# Altium footprint library Connector_JAE_WP7B.PcbLib: 20 footprints (part 2 of 2)
Each footprint in its own frame and in the unit in brackets; x right, y up, seen from the top. Pads: shape width x height; smd on the part's side, far side on the other; paste and mask are expansions set on the pad; w line width, h text height; cw(c..) or ccw(c..) is an arc to the next point about the centre after c.
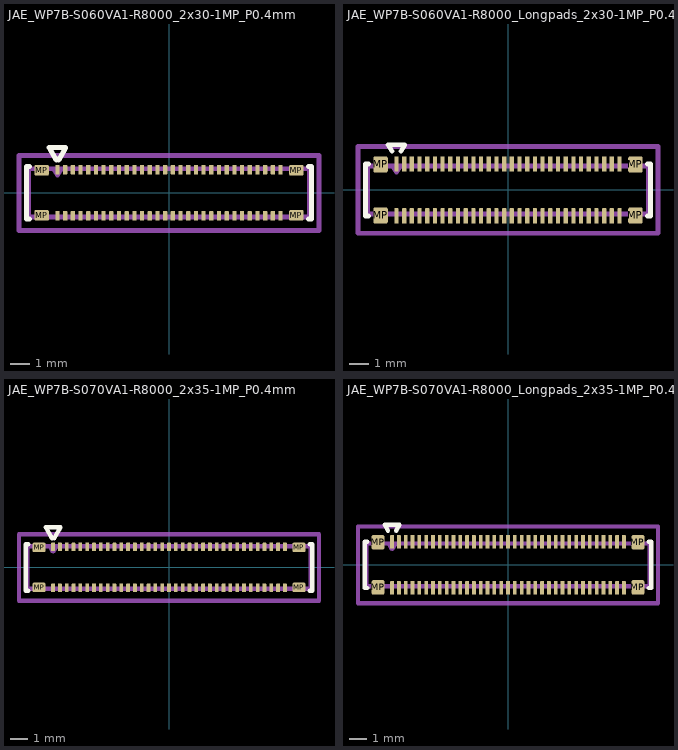
[diagram p1: the footprints below, top view; thin cyan lines are the x and y axes]

## JAE_WP7B-S060VA1-R8000_2x30-1MP_P0.4mm [mm]
pads (64):
  rrect25% 0.22x0.5 smd: 1(-5.8,1.2) 2(-5.8,-1.2) 3(-5.4,1.2) 4(-5.4,-1.2) 5(-5,1.2) 6(-5,-1.2) 7(-4.6,1.2) 8(-4.6,-1.2) 9(-4.2,1.2) 10(-4.2,-1.2) 11(-3.8,1.2) 12(-3.8,-1.2) 13(-3.4,1.2) 14(-3.4,-1.2) 15(-3,1.2) 16(-3,-1.2) 17(-2.6,1.2) 18(-2.6,-1.2) 19(-2.2,1.2) 20(-2.2,-1.2) 21(-1.8,1.2) 22(-1.8,-1.2) 23(-1.4,1.2) 24(-1.4,-1.2) 25(-1,1.2) 26(-1,-1.2) 27(-0.6,1.2) 28(-0.6,-1.2) 29(-0.2,1.2) 30(-0.2,-1.2) 31(0.2,1.2) 32(0.2,-1.2) 33(0.6,1.2) 34(0.6,-1.2) 35(1,1.2) 36(1,-1.2) 37(1.4,1.2) 38(1.4,-1.2) 39(1.8,1.2) 40(1.8,-1.2) 41(2.2,1.2) 42(2.2,-1.2) 43(2.6,1.2) 44(2.6,-1.2) 45(3,1.2) 46(3,-1.2) 47(3.4,1.2) 48(3.4,-1.2) 49(3.8,1.2) 50(3.8,-1.2) 51(4.2,1.2) 52(4.2,-1.2) 53(4.6,1.2) 54(4.6,-1.2) 55(5,1.2) 56(5,-1.2) 57(5.4,1.2) 58(5.4,-1.2) 59(5.8,1.2) 60(5.8,-1.2)
  rrect25% 0.75x0.55 smd: MP(-6.625,-1.175) MP(-6.625,1.175) MP(6.625,-1.175) MP(6.625,1.175)
F.SilkS:
  lines w0.254: -7.26,-1.36 -7.41,-1.36 -7.41,1.36 -7.26,1.36 ; -5.864,1.71 -6.233,2.35 -5.367,2.35 -5.736,1.71 ; 7.26,-1.36 7.41,-1.36 7.41,1.36 7.26,1.36
Top Assembly:
  lines w0.254: -6,1.25 -5.8,0.93 -5.6,1.25 ; -7.3,-1.25 7.3,-1.25 7.3,1.25 -7.3,1.25 -7.3,-1.25
  text "'.Designator'" at -4.047,-0.84 h1
Top Courtyard:
  lines w0.254: -7.8,-1.95 7.8,-1.95 7.8,1.95 -7.8,1.95 -7.8,-1.95
Top Designator:
  text ".Designator" at -7.618,-0.308 h1.52

## JAE_WP7B-S060VA1-R8000_Longpads_2x30-1MP_P0.4mm [mm]
pads (64):
  rrect25% 0.22x0.8 smd: 1(-5.8,1.35) 2(-5.8,-1.35) 3(-5.4,1.35) 4(-5.4,-1.35) 5(-5,1.35) 6(-5,-1.35) 7(-4.6,1.35) 8(-4.6,-1.35) 9(-4.2,1.35) 10(-4.2,-1.35) 11(-3.8,1.35) 12(-3.8,-1.35) 13(-3.4,1.35) 14(-3.4,-1.35) 15(-3,1.35) 16(-3,-1.35) 17(-2.6,1.35) 18(-2.6,-1.35) 19(-2.2,1.35) 20(-2.2,-1.35) 21(-1.8,1.35) 22(-1.8,-1.35) 23(-1.4,1.35) 24(-1.4,-1.35) 25(-1,1.35) 26(-1,-1.35) 27(-0.6,1.35) 28(-0.6,-1.35) 29(-0.2,1.35) 30(-0.2,-1.35) 31(0.2,1.35) 32(0.2,-1.35) 33(0.6,1.35) 34(0.6,-1.35) 35(1,1.35) 36(1,-1.35) 37(1.4,1.35) 38(1.4,-1.35) 39(1.8,1.35) 40(1.8,-1.35) 41(2.2,1.35) 42(2.2,-1.35) 43(2.6,1.35) 44(2.6,-1.35) 45(3,1.35) 46(3,-1.35) 47(3.4,1.35) 48(3.4,-1.35) 49(3.8,1.35) 50(3.8,-1.35) 51(4.2,1.35) 52(4.2,-1.35) 53(4.6,1.35) 54(4.6,-1.35) 55(5,1.35) 56(5,-1.35) 57(5.4,1.35) 58(5.4,-1.35) 59(5.8,1.35) 60(5.8,-1.35)
  rrect25% 0.75x0.85 smd: MP(-6.625,-1.325) MP(-6.625,1.325) MP(6.625,-1.325) MP(6.625,1.325)
F.SilkS:
  lines w0.254: -7.26,-1.36 -7.41,-1.36 -7.41,1.36 -7.26,1.36 ; -6.037,2.01 -6.233,2.35 -5.367,2.35 -5.563,2.01 ; 7.26,-1.36 7.41,-1.36 7.41,1.36 7.26,1.36
Top Assembly:
  lines w0.254: -6,1.25 -5.8,0.93 -5.6,1.25 ; -7.3,-1.25 7.3,-1.25 7.3,1.25 -7.3,1.25 -7.3,-1.25
  text "'.Designator'" at -4.047,-0.84 h1
Top Courtyard:
  lines w0.254: -7.8,-2.25 7.8,-2.25 7.8,2.25 -7.8,2.25 -7.8,-2.25
Top Designator:
  text ".Designator" at -7.618,-0.458 h1.52

## JAE_WP7B-S070VA1-R8000_2x35-1MP_P0.4mm [mm]
pads (74):
  rrect25% 0.22x0.5 smd: 1(-6.8,1.2) 2(-6.8,-1.2) 3(-6.4,1.2) 4(-6.4,-1.2) 5(-6,1.2) 6(-6,-1.2) 7(-5.6,1.2) 8(-5.6,-1.2) 9(-5.2,1.2) 10(-5.2,-1.2) 11(-4.8,1.2) 12(-4.8,-1.2) 13(-4.4,1.2) 14(-4.4,-1.2) 15(-4,1.2) 16(-4,-1.2) 17(-3.6,1.2) 18(-3.6,-1.2) 19(-3.2,1.2) 20(-3.2,-1.2) 21(-2.8,1.2) 22(-2.8,-1.2) 23(-2.4,1.2) 24(-2.4,-1.2) 25(-2,1.2) 26(-2,-1.2) 27(-1.6,1.2) 28(-1.6,-1.2) 29(-1.2,1.2) 30(-1.2,-1.2) 31(-0.8,1.2) 32(-0.8,-1.2) 33(-0.4,1.2) 34(-0.4,-1.2) 35(0,1.2) 36(0,-1.2) 37(0.4,1.2) 38(0.4,-1.2) 39(0.8,1.2) 40(0.8,-1.2) 41(1.2,1.2) 42(1.2,-1.2) 43(1.6,1.2) 44(1.6,-1.2) 45(2,1.2) 46(2,-1.2) 47(2.4,1.2) 48(2.4,-1.2) 49(2.8,1.2) 50(2.8,-1.2) 51(3.2,1.2) 52(3.2,-1.2) 53(3.6,1.2) 54(3.6,-1.2) 55(4,1.2) 56(4,-1.2) 57(4.4,1.2) 58(4.4,-1.2) 59(4.8,1.2) 60(4.8,-1.2) 61(5.2,1.2) 62(5.2,-1.2) 63(5.6,1.2) 64(5.6,-1.2) 65(6,1.2) 66(6,-1.2) 67(6.4,1.2) 68(6.4,-1.2) 69(6.8,1.2) 70(6.8,-1.2)
  rrect25% 0.75x0.55 smd: MP(-7.625,-1.175) MP(-7.625,1.175) MP(7.625,-1.175) MP(7.625,1.175)
F.SilkS:
  lines w0.254: -8.26,-1.36 -8.41,-1.36 -8.41,1.36 -8.26,1.36 ; -6.864,1.71 -7.233,2.35 -6.367,2.35 -6.736,1.71 ; 8.26,-1.36 8.41,-1.36 8.41,1.36 8.26,1.36
Top Assembly:
  lines w0.254: -7,1.25 -6.8,0.93 -6.6,1.25 ; -8.3,-1.25 8.3,-1.25 8.3,1.25 -8.3,1.25 -8.3,-1.25
  text "'.Designator'" at -4.047,-0.84 h1
Top Courtyard:
  lines w0.254: -8.8,-1.95 8.8,-1.95 8.8,1.95 -8.8,1.95 -8.8,-1.95
Top Designator:
  text ".Designator" at -7.618,-0.308 h1.52

## JAE_WP7B-S070VA1-R8000_Longpads_2x35-1MP_P0.4mm [mm]
pads (74):
  rrect25% 0.22x0.8 smd: 1(-6.8,1.35) 2(-6.8,-1.35) 3(-6.4,1.35) 4(-6.4,-1.35) 5(-6,1.35) 6(-6,-1.35) 7(-5.6,1.35) 8(-5.6,-1.35) 9(-5.2,1.35) 10(-5.2,-1.35) 11(-4.8,1.35) 12(-4.8,-1.35) 13(-4.4,1.35) 14(-4.4,-1.35) 15(-4,1.35) 16(-4,-1.35) 17(-3.6,1.35) 18(-3.6,-1.35) 19(-3.2,1.35) 20(-3.2,-1.35) 21(-2.8,1.35) 22(-2.8,-1.35) 23(-2.4,1.35) 24(-2.4,-1.35) 25(-2,1.35) 26(-2,-1.35) 27(-1.6,1.35) 28(-1.6,-1.35) 29(-1.2,1.35) 30(-1.2,-1.35) 31(-0.8,1.35) 32(-0.8,-1.35) 33(-0.4,1.35) 34(-0.4,-1.35) 35(0,1.35) 36(0,-1.35) 37(0.4,1.35) 38(0.4,-1.35) 39(0.8,1.35) 40(0.8,-1.35) 41(1.2,1.35) 42(1.2,-1.35) 43(1.6,1.35) 44(1.6,-1.35) 45(2,1.35) 46(2,-1.35) 47(2.4,1.35) 48(2.4,-1.35) 49(2.8,1.35) 50(2.8,-1.35) 51(3.2,1.35) 52(3.2,-1.35) 53(3.6,1.35) 54(3.6,-1.35) 55(4,1.35) 56(4,-1.35) 57(4.4,1.35) 58(4.4,-1.35) 59(4.8,1.35) 60(4.8,-1.35) 61(5.2,1.35) 62(5.2,-1.35) 63(5.6,1.35) 64(5.6,-1.35) 65(6,1.35) 66(6,-1.35) 67(6.4,1.35) 68(6.4,-1.35) 69(6.8,1.35) 70(6.8,-1.35)
  rrect25% 0.75x0.85 smd: MP(-7.625,-1.325) MP(-7.625,1.325) MP(7.625,-1.325) MP(7.625,1.325)
F.SilkS:
  lines w0.254: -8.26,-1.36 -8.41,-1.36 -8.41,1.36 -8.26,1.36 ; -7.037,2.01 -7.233,2.35 -6.367,2.35 -6.563,2.01 ; 8.26,-1.36 8.41,-1.36 8.41,1.36 8.26,1.36
Top Assembly:
  lines w0.254: -7,1.25 -6.8,0.93 -6.6,1.25 ; -8.3,-1.25 8.3,-1.25 8.3,1.25 -8.3,1.25 -8.3,-1.25
  text "'.Designator'" at -4.047,-0.84 h1
Top Courtyard:
  lines w0.254: -8.8,-2.25 8.8,-2.25 8.8,2.25 -8.8,2.25 -8.8,-2.25
Top Designator:
  text ".Designator" at -7.618,-0.458 h1.52